# Altium schematic symbol library 39uF Buck.SchLib: 1 symbol
Pins are listed as number, name and electrical type; pins without a type are passive.

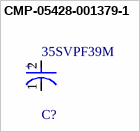
[diagram p0: symbol CMP-05428-001379-1]

## CMP-05428-001379-1
designator C?, comment 35SVPF39M
Conductive Polymer Aluminum Solid Capacitors (OS-CON) 39uF ±20% 35V RADIAL SMT 8x6.9mm; Ripple Current: 2.8A; Life (Hours): 5000Hour; Polarity: Polar; ESR (Equivalent Series Resistance): 30mR; Dissipation Factor: 12%; Leakage Current: 273uA; Height: 6.9mm; Tolerance: 20%; Series: OS-CON™, SVPF; Lead Free: Lead Free; Diameter: 8mm; Case/Package: Radial; Voltage: 35V; Package Quantity: 1000; Min Operating Temperature: -55°C; Packaging: Tape and Reel; Height - Seated (Max): 0.276inch; Voltage Rating (DC): 35V; Ripple Current (AC): 2.8A; Termination: SMD/SMT; Number of Pins: 7; Max Operating Temperature: 105°C; Voltage Rating: 35V; RoHS Compliant: Yes; REACH SVHC: No SVHC; Length: 6.9mm; Capacitance: 39uF; Mount: Surface Mount
footprint FP-OS-CON-SMT-E7-MFG
pins: 1 C, 2 A
text: +